# Altium schematic symbol library Schlib1.SchLib: 36 symbols
Pins are listed as number, name and electrical type; pins without a type are passive.

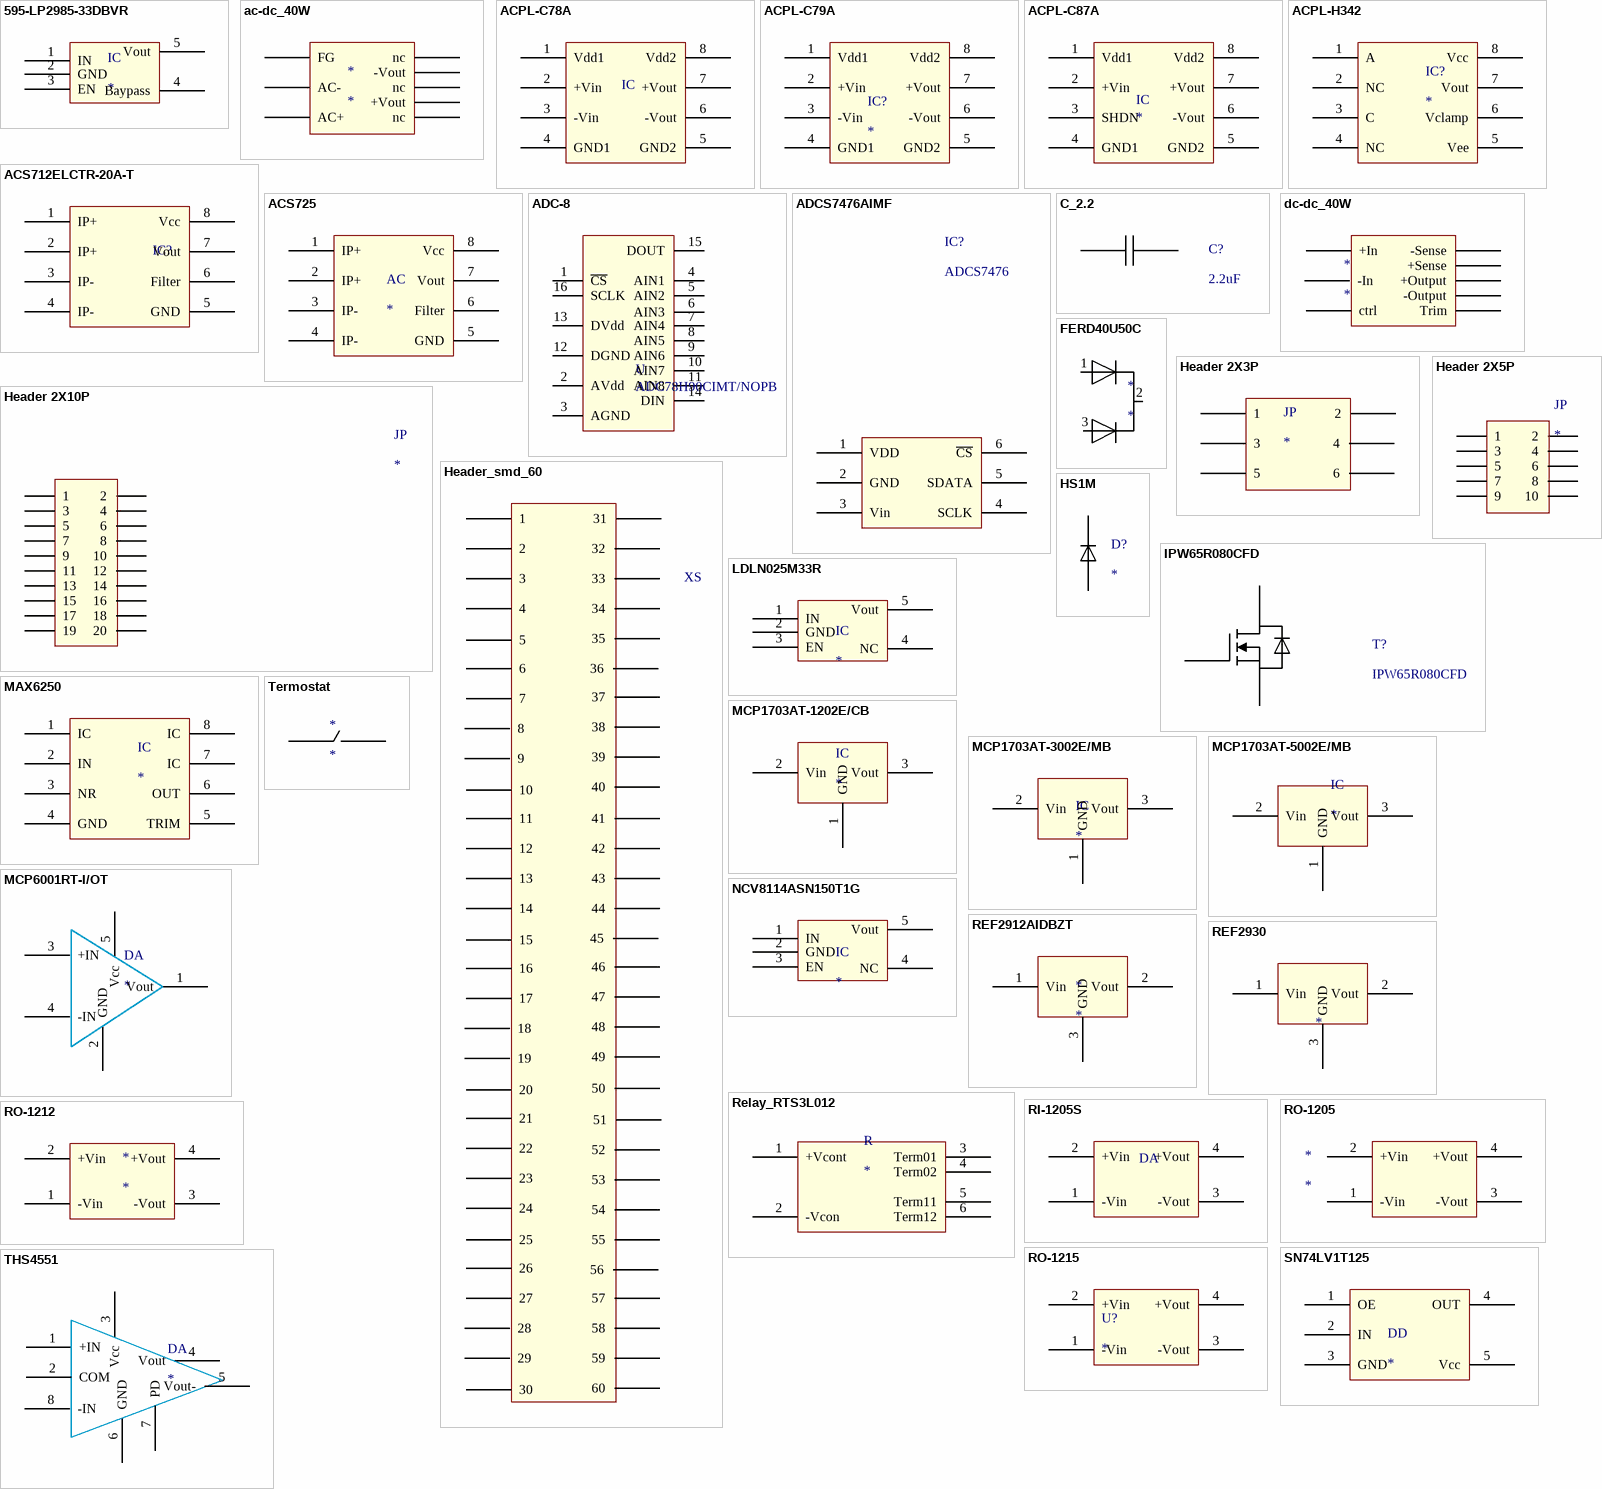
[diagram p0: symbols 595-LP2985-33DBVR to THS4551]

## 595-LP2985-33DBVR
designator IC
Value: 3.3V; Order code: 595-LP2985-33DBVR; Supplier: Mouser
footprint SOT23_5
pins: 1 IN, 2 GND, 3 EN, 4 Baypass, 5 Vout

## ac-dc_40W
designator *
footprint TML_20(c)
pins: 1 FG, 2 AC-, 3 AC+, 4 nc, 5 -Vout, 6 nc, 7 +Vout, 8 nc

## ACPL-C78A
designator IC  (value not drawn)
Manufacturer: Avago; Order code: 1710664; Package: SSO-8; Type: ACPL-C78A; Price: 10,78; Value: *; Supplier: Farnell
footprint SOIC127P1150X350-8N (SOIC, 8-Leads, Body 6.3x7.0mm (max), Pitch 1.27mm, IPC Medium Density)
pins: 1 Vdd1, 2 +Vin, 3 -Vin, 4 GND1, 5 GND2, 6 -Vout, 7 +Vout, 8 Vdd2

## ACPL-C79A
designator IC?
Manufacturer: Avago; Order code: 1854251; Value: Optical differential amplifier; Publisher: Altium Limiter; Supplier: Farnell; Type: ACPL-C79A; Package: SSO-8; Price: 9,04; Comments: *
footprint SOIC127P1150X350-8N (SOIC, 8-Leads, Body 6.3x7.0mm (max), Pitch 1.27mm, IPC Medium Density)
pins: 1 Vdd1, 2 +Vin, 3 -Vin, 4 GND1, 5 GND2, 6 -Vout, 7 +Vout, 8 Vdd2

## ACPL-C87A
designator IC
Manufacturer: Avago; Order code: 2213634; Supplier: Farnell; Type: ACPL-C87A; Value: *; Package: SSO-8; Price: 8,36
footprint SOIC127P1150X350-8N (SOIC, 8-Leads, Body 6.3x7.0mm (max), Pitch 1.27mm, IPC Medium Density)
pins: 1 Vdd1, 2 +Vin, 3 SHDN, 4 GND1, 5 GND2, 6 -Vout, 7 +Vout, 8 Vdd2

## ACPL-H342
designator IC?
Manufacturer: Avago; Order code: 1833408; Value: 2,5 A, 12-30V; Package: SSO-8; Price: 2; Publisher: *; Supplier: Farnell; Type: ACPL-H342
footprint SOIC127P970X330-8N (SOIC, 8-Leads, Body 6.1x6.8mm (max), Pitch 1.27mm, IPC Medium Density)
pins: 1 A, 2 NC, 3 C, 4 NC, 5 Vee, 6 Vclamp, 7 Vout, 8 Vcc

## ACS712ELCTR-20A-T
designator IC?  (value not drawn)
Manufacturer: Allegro; Order code: 1329624RL; Value: +-20A; Package: SOIC8; Price: 4.23; Publisher: *; Supplier: Farnell; Type: current sensor
footprint SOIC127P600X175-8N (SOIC, 8-Leads, Body 5.0x4.0mm (max), Pitch 1.27mm, IPC Medium Density)
pins: 1 IP+, 2 IP+, 3 IP-, 4 IP-, 5 GND, 6 Filter, 7 Vout, 8 Vcc

## ACS725
designator AC
Value: 20A; Order code: 620-1724-1-ND; Supplier: Digi-key
footprint SOIC_8
pins: 1 IP+, 2 IP+, 3 IP-, 4 IP-, 5 GND, 6 Filter, 7 Vout, 8 Vcc

## ADC-8
designator U, comment ADC78H90CIMT/NOPB
Manufacturer: National Semiconductor; Value: 12 bit, 8-chanels; Order code: 73-067-19; Type: ADC78H90CIMT/NOPB; Price: 6,46; Package: TSSOP-16; Supplier: Elfa
footprint TSSOP16
pins: 1 ~{CS}, 2 AVdd, 3 AGND, 4 AIN1, 5 AIN2, 6 AIN3, 7 AIN4, 8 AIN5, 9 AIN6, 10 AIN7, 11 AIN8, 12 DGND, 13 DVdd, 14 DIN, 15 DOUT, 16 SCLK

## ADCS7476AIMF
designator IC?, comment ADCS7476
Manufacturer: National Semiconductor; Order code: 73-067-21; Value: 12 bit, 8 MHz, single; Package: SOT-23-6; Price: 4,2; Publisher: *; Supplier: Elfa; Type: ADCS7476
footprint SOT95P280X145-6N (SOT23, 6-Leads, Body 3.0x3.0mm (max), Pitch 0.95mm, IPC Medium Density)
pins: 1 VDD, 2 GND, 3 Vin, 4 SCLK, 5 SDATA, 6 ~{CS}

## C_2.2
designator C?, comment 2.2uF
Manufacturer: Murata; Order code: 65-503-05; Type: smd; Value: 2,2 uF, 100 V; Package: 1210; Price: 1,23; Publisher: *; Supplier: Elfa
footprint CAPC3227X25N (Chip Capacitor, 2-Leads, Body 3.2x2.7mm, IPC Medium Density)
pins: 1, 2

## dc-dc_40W
designator *
footprint PXF
pins: 1 +In, 2 -In, 3 ctrl, 4 -Sense, 5 +Sense, 6 +Output, 7 -Output, 8 Trim

## FERD40U50C
designator *
footprint TO-220_3
pins: 1, 2, 3

## Header 2X3P
designator JP
Manufacturer: TE Connectivity; Order code: 44-207-17; Package: *; Price: 0,91; Publisher: *; Supplier: Elfa; Type: 600V, 9A; Value: *
footprint Header 2x3P (Straight header 2x2P)
pins: 1, 2, 3, 4, 5, 6

## Header 2X5P
designator JP
Manufacturer: Harwin; Order code: 43-914-12; Package: 10x2.54mm; Price: 1,05; Publisher: *; Supplier: Elfa; Type: M50-3500542; Value: *
footprint Header 2X5P
pins: 1, 2, 3, 4, 5, 6, 7, 8, 9, 10

## Header 2X10P
designator JP
Manufacturer: FCI; Order code: 43-016-81; Package: 2x10x2.54mm; Price: 3,7; Publisher: *; Supplier: Elfa; Type: 76385-310LF; Value: *
footprint Header 2X10P
pins: 1, 2, 3, 4, 5, 6, 7, 8, 9, 10, 11, 12, 13, 14, 15, 16, 17, 18, 19, 20

## Header_smd_60
designator XS  (value not drawn)
Manufacturer: molex; Value: 60POS, 2ROW, 0.8MM; Order code: 2424130; Type: smd_60; Supplier: Farnel; Package: SOP60; Price: 5.25
footprint SOP60
pins: 1, 2, 3, 4, 5, 6, 7, 8, 9, 11, 12, 13, 14, 15, 16, 17, 18, 19 10, 19, 20, 21, 22, 23, 24, 25, 26, 27, 28, 29, 30, 31, 32, 33, 34, 35, 36, 37, 38, 39, 40, 41, 42, 43, 44, 45, 46, 47, 48, 49, 50, 51, 52, 53, 54, 55, 56, 57, 58, 59, 60

## HS1M
designator D?
Package: *; Price: *; Publisher: *; Supplier: *; Manufacturer: *; Type: *; Value: *
footprint DIOM4326X25N (Molded Diode, 2-Leads, Body 4.3x2.6mm, IPC Medium Density)
pins: 1, 2

## IPW65R080CFD
designator T?
Manufacturer: Infinion; Value: 700V, 72mOhm; Order code: 2212841; Package: TO-247-3; Price: 9,37; Publisher: *; Supplier: Farnell; Type: IPW65R080CFD
footprint PG-TO-247-3
pins: 1 G, 2 D, 3 S

## LDLN025M33R
designator IC
Value: 3.3V; Order code: 511-LDLN025M33R; Supplier: Mouser
footprint SOT23_5
pins: 1 IN, 2 GND, 3 EN, 4 NC, 5 Vout

## MAX6250
designator IC
Value: 5V; Order code: 2519067; Supplier: Farnell
footprint SOIC_8
pins: 1 IC, 2 IN, 3 NR, 4 GND, 5 TRIM, 6 OUT, 7 IC, 8 IC

## MCP1703AT-1202E/CB
designator IC
Value: 1.2V; Order code: 2218569; Type: ldo; Price: *; Package: SOT89; Supplier: Farnjell
footprint SOT89-150P410X160-3N (SOT89, 3-Leads, Body 4.5x2.4mm (max), Pitch 1.50mm, Lead Span 4.1mm, IPC Medium Density)
pins: 1 GND, 2 Vin, 3 Vout

## MCP1703AT-3002E/MB
designator IC
Value: 3.3V , 250mA; order code: 2218575; Supplier: Farnjell
footprint SOT89-150P410X160-3N (SOT89, 3-Leads, Body 4.5x2.4mm (max), Pitch 1.50mm, Lead Span 4.1mm, IPC Medium Density)
pins: 1 GND, 2 Vin, 3 Vout

## MCP1703AT-5002E/MB
designator IC
Manufacturer: Microchip; Order code: 2218577; Value: LDO 5V,  250mA; Package: SOT89-3; Price: 0,51; Publisher: *; Supplier: Farnjell; Type: MCP1703AT-5002E/MB
footprint SOT89-150P410X160-3N (SOT89, 3-Leads, Body 4.5x2.4mm (max), Pitch 1.50mm, Lead Span 4.1mm, IPC Medium Density)
pins: 1 GND, 2 Vin, 3 Vout

## MCP6001RT-I/OT
designator DA
Value: OA 1 MHZ; Order code: 8540829; Supplier: Farnell
footprint SOT23_5
pins: 1 Vout, 2 GND, 3 +IN, 4 -IN, 5 Vcc

## NCV8114ASN150T1G
designator IC
Value: 1.5V; Order code: 2760567; Supplier: Farnell
footprint SOT23_5
pins: 1 IN, 2 GND, 3 EN, 4 NC, 5 Vout

## REF2912AIDBZT
designator *
Value: 1.25V; Order code: 1459246; Supplier: Farnell
footprint SOT23
pins: 1 Vin, 2 Vout, 3 GND

## REF2930
designator ?
Value: 3V; Order code: 1651204; Supplier: Farnell
footprint SOT23
pins: 1 Vin, 2 Vout, 3 GND

## Relay_RTS3L012
designator R
RTS3L012; Manufacturer: TE CONNECTIVITY; Order code: 1629016; Value: 12 DC, 360 Ohm; Price: 10.6; Supplier: Farnell; Type: Relay 240VAC, 16A; Package: S0163-BF
footprint Relay12V
pins: 1 +Vcont, 2 -Vcon, 3 Term01, 4 Term02, 5 Term11, 6 Term12

## RI-1205S
designator DA  (value not drawn)
Manufacturer: Recom; Value: 5V, 2W; Order code: 10-346-08; Type: RI-1205S; Price: 7,58; Supplier: Elfa; Package: SIL-4
footprint SIP4 (1W 12/12 V DC/DC converter)
pins: 1 -Vin, 2 +Vin, 3 -Vout, 4 +Vout

## RO-1205
designator *
Manufacturer: Recom; Order code: 69-073-22; Value: 1W, 12V input, 5V output; Package: SIL-4; Price: 6,13; Publisher: *; Supplier: Elfa; Type: RO-1205S
pins: 1 -Vin, 2 +Vin, 3 -Vout, 4 +Vout

## RO-1212
designator *
Order code: 11034648; Value: 12V-12V; Supplier: Elfa; Type: dc-dc, 1W; Price: *; Manufacturer: *
footprint SIP4
pins: 1 -Vin, 2 +Vin, 3 -Vout, 4 +Vout

## RO-1215
designator U?
Manufacturer: Recom; Order code: 69-073-22; Value: 1W, 12V input, 15V output; Package: SIL-4; Price: 6,13; Publisher: *; Supplier: Elfa; Type: RO-1215
footprint SIP4
pins: 1 -Vin, 2 +Vin, 3 -Vout, 4 +Vout

## SN74LV1T125
designator DD
Order code: 2499910; Value: 1.6V to 5.5V; Supplier: Farnell
footprint SOT23_5
pins: 1 OE, 2 IN, 3 GND, 4 OUT, 5 Vcc

## Termostat
designator *
Package: *; Price: *; Publisher: *; Supplier: *; Manufacturer: *; Type: *; Value: *
footprint TO220_2
pins: 1, 2

## THS4551
designator DA
Order code: 2643424; Supplier: Farnell
footprint VSSOP8
pins: 1 +IN, 2 COM, 3 Vcc, 4 Vout, 5 Vout-, 6 GND, 7 PD, 8 -IN